# Altium footprint library SMD.PcbLib: 86 footprints (part 3 of 6)
Each footprint in its own frame and in the unit in brackets; x right, y up, seen from the top. Pads: shape width x height; smd on the part's side, far side on the other; paste and mask are expansions set on the pad; w line width, h text height; cw(c..) or ccw(c..) is an arc to the next point about the centre after c.
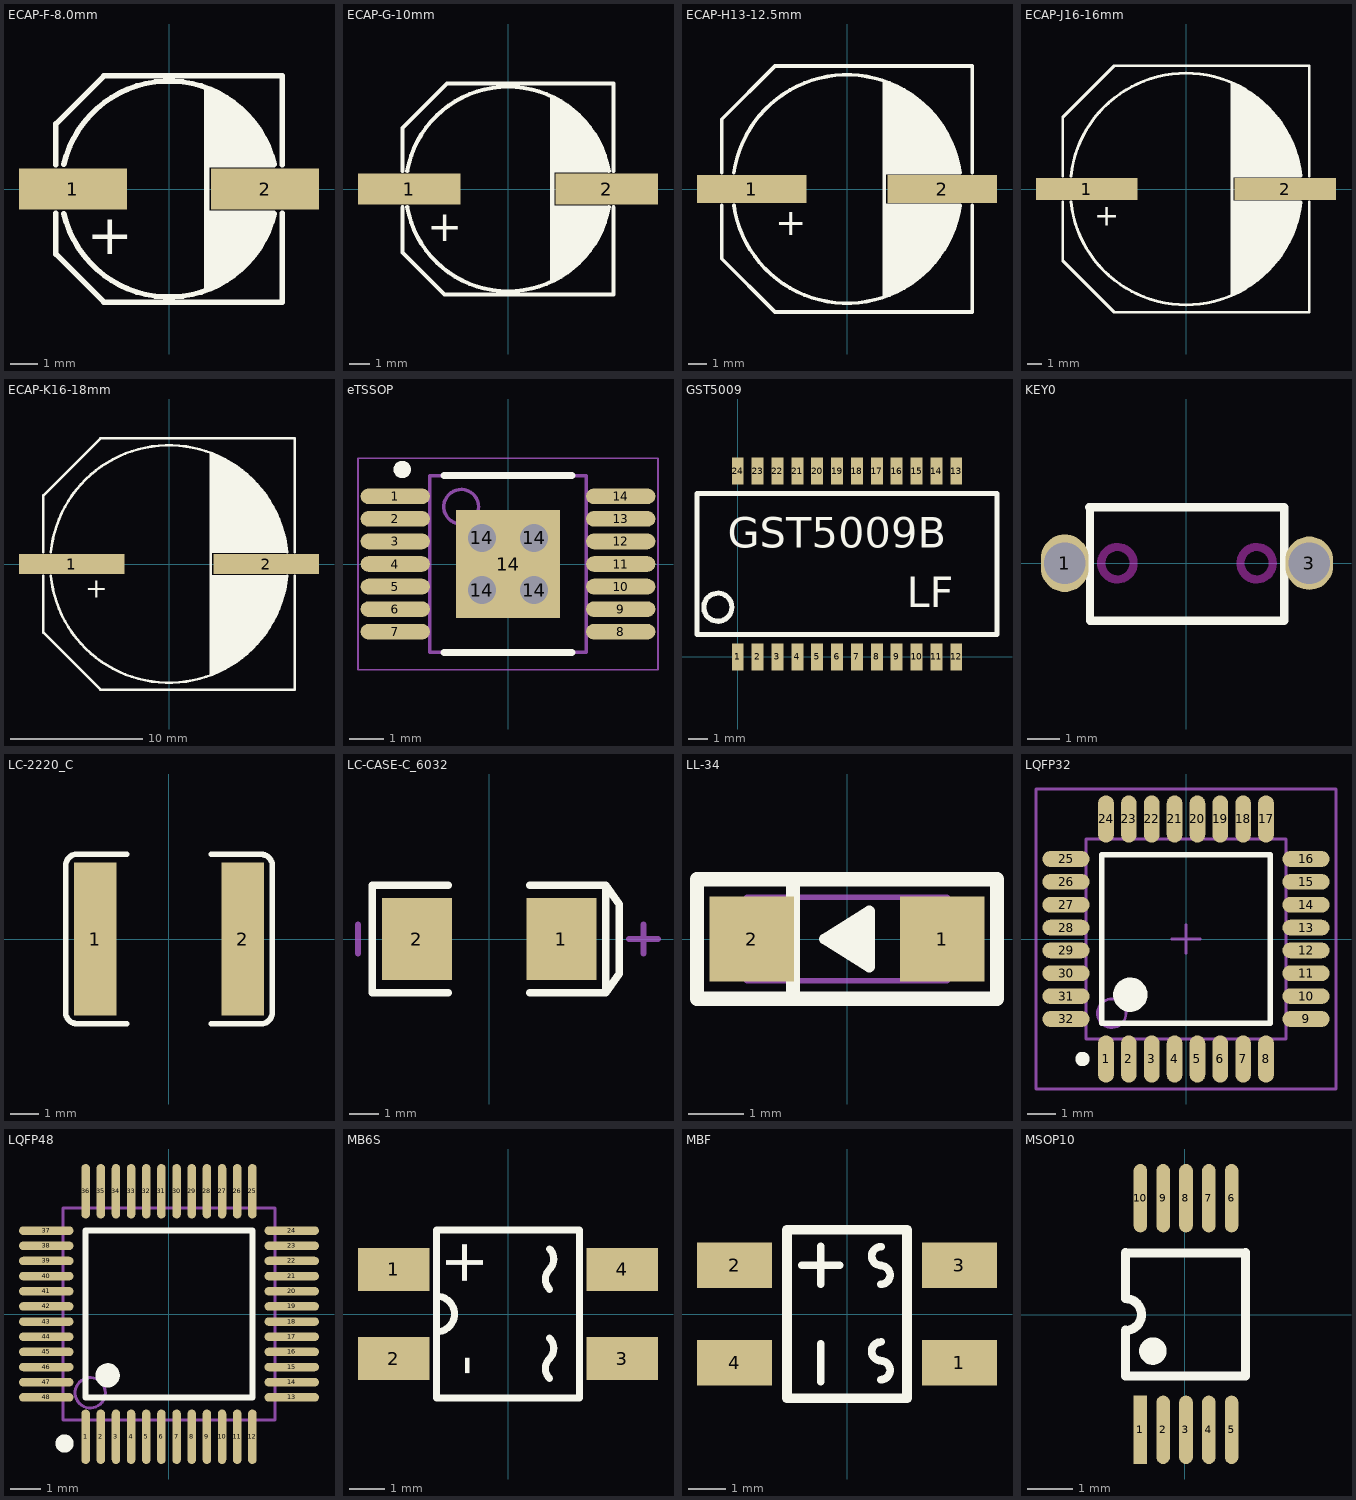
[diagram p2: the footprints below, top view; thin cyan lines are the x and y axes]

## ECAP-F-8.0mm [mil] "贴片铝电容-F"
height 401.57
pads (2):
  rect 157.48x60 smd: 1(-140,0) 2(140,0)
Top Overlay:
  region: 55,-32 154,-32 143,-67 115,-107 80,-136 65,-144 55,-147
  region: 55,32 154,32 143,67 115,107 80,136 65,144 55,148
  lines w7.87: -165,-35 -165,-95 -95,-165 165,-165 165,-35 ; -165,35 -165,95 -95,165 165,165 165,35 ; -153.36,-35.78 ccw(c0,0) 153.36,-35.78 ; -153.36,35.78 cw(c0,0) 153.36,35.78 ; 55,-145 55,145
  text "+" at -120,-95 h59.06
3D body "User Library-capacitor size F.step": height 401.77, standoff -0.2, extent -194.88,-163.38 194.89,163.39

## ECAP-G-10mm [mil] "贴片铝电容-G"
height 401.57
pads (2):
  rect 196.85x60 smd: 1(-190,0) 2(190,0)
Top Overlay:
  region: 84.5,-32 193.5,-32 187.5,-61 169.5,-99 148.5,-129 116.5,-159 90.5,-175 84.5,-176
  region: 85,32 194,32 188,61 170,99 149,129 117,159 91,175 85,176
  lines w7.87: -202.99,-35 -202.99,-122.01 -122.01,-202.99 202.99,-202.99 202.99,-35 ; -202.99,35 -202.99,117.01 -117,203 202.99,203 202.99,35 ; -193.75,-34.78 ccw(c0,0) 193.75,-34.78 ; -193.75,34.78 cw(c0,0) 193.75,34.78 ; 85,-175 85,175
  text "+" at -155,-100 h59.06
3D body "User Library-capacitor size G.step": height 401.77, standoff -0.2, extent -228.34,-202.75 228.35,202.76

## ECAP-H13-12.5mm [mil] "贴片铝电容-H13"
height 543.31
pads (2):
  rect 236.22x60 smd: 1(-205,0) 2(205,0)
Top Overlay:
  region: 80,-32 243,-32 243,-40 234,-78 219,-112 193,-153 162,-186 116,-218 90,-230 80,-231
  region: 80.5,32 243.5,32 243.5,40 234.5,78 219.5,112 193.5,153 162.5,186 116.5,218 90.5,230 80.5,231
  lines w7.87: -270,-35 -270,-150 -155,-265 270,-265 270,-35 ; -270,35 -270,150 -155,265 270,265 270,35 ; -243.59,34.8 cw(c0,0) 243.59,34.8 ; -243.49,-35.51 ccw(c0,0) 243.49,-35.51 ; 80,-230 80,230
  text "+" at -155,-100 h59.06
3D body "User Library-capacitor size H13.step": height 531.69, standoff -0.2, extent -271.65,-265.75 271.66,265.75

## ECAP-J16-16mm [mil] "贴片铝电容-J16"
height 661.42
pads (2):
  rect 275.59x60 smd: 1(-270,0) 2(270,0)
Top Overlay:
  region: 125,32 313,32 310,53 296,108 278,150 249,192 219,225 181,257 154,274 125,287
  region: 125,-32 313,-32 310,-53 296,-108 278,-150 249,-192 219,-225 181,-257 154,-274 125,-287
  lines w7.87: -335,-35 -335,-195 -195,-335 335,-335 335,-35 ; -335,35 -335,195 -195,335 335,335 335,35 ; -313.03,-34.78 ccw(c0,0) 312.97,-35.34 ; -313.03,34.78 cw(c0,0) 312.97,35.34 ; 125,-285 125,285
  text "+" at -250,-100 h59.06
3D body "User Library-capacitor size J16.step": height 649.8, standoff -0.2, extent -348.42,-334.65 348.43,334.64

## ECAP-K16-18mm [mil] "贴片铝电容-K16"
height 661.42
pads (2):
  rect 314.96x60 smd: 1(-290,0) 2(290,0)
Top Overlay:
  region: 125,33 353,33 351,51 342,95 318,157 294,199 259,241 233,267 201,292 172,310 147,322 125,331
  region: 125,-33 353,-33 351,-51 342,-95 318,-157 294,-199 259,-241 233,-267 201,-292 172,-310 147,-322 125,-331
  lines w7.87: -375,-35 -375,-205 -205,-375 375,-375 375,-35 ; -375,35 -375,205 -205,375 375,375 375,35 ; -352.57,-35.26 ccw(c0,0) 352.57,-35.26 ; -352.57,35.26 cw(c0,0) 352.57,35.26 ; 125,-330 125,330
  text "+" at -250,-100 h59.06
3D body "User Library-capacitor size K16.step": height 649.8, standoff -0.2, extent -395.66,-374.02 395.68,374.02

## eTSSOP [mm] "LM3150"
height 1.1
pads (19):
  oval 2x0.45 smd: 1(-3.25,1.95) 2(-3.25,1.3) 3(-3.25,0.65) 4(-3.25,0) 5(-3.25,-0.65) 6(-3.25,-1.3) 7(-3.25,-1.95) 8(3.25,-1.95) 9(3.25,-1.3) 10(3.25,-0.65) 11(3.25,0) 12(3.25,0.65) 13(3.25,1.3) 14(3.25,1.95)
  round 1 hole 0.8: 14(-0.75,-0.75) 14(-0.75,0.75) 14(0.75,-0.75) 14(0.75,0.75)
  rect 3x3.1 smd: 14(0,0)
Top Overlay:
  circle w0.25: c-3.05,2.725 r0.125
  lines w0.2: -1.85,-2.55 1.85,-2.55 ; -1.85,2.55 1.85,2.55
Mechanical 13:
  circle w0.1: c-1.35,1.65 r0.5
  lines w0.1: -2.25,-2.55 -2.25,2.55 2.25,2.55 2.25,-2.55 -2.25,-2.55
Mechanical 15:
  lines w0.05: -4.325,-3.05 -4.325,3.05 4.325,3.05 4.325,-3.05 -4.325,-3.05
  lines w0.1: -0.5,0 0.5,0 ; 0,-0.5 0,0.5
3D body: height 1.1, standoff 0.08, extent -2.25,-2.55 2.25,2.55

## GST5009 [mm]
pads (24):
  rect 0.6x1.35 smd: 1(0,0) 2(1,0) 3(2,0) 4(3,0) 5(4,0) 6(5,0) 7(6,0) 8(7,0) 9(8,0) 10(9,0) 11(10,0) 12(11,0) 13(11,9.35) 14(10,9.35) 15(9,9.35) 16(8,9.35) 17(7,9.35) 18(6,9.35) 19(5,9.35) 20(4,9.35) 21(3,9.35) 22(2,9.35) 23(1,9.35) 24(0,9.35)
Top Overlay:
  circle w0.254: c-1,2.5 r0.707
  lines w0.254: -2.05,1.125 13.05,1.125 13.05,8.225 -2.05,8.225 -2.05,1.125
  text "LF" at 8.5,2.5 h1.52
  text "GST5009B" at -0.5,5.5 h1.52

## KEY0 [mil]
pads (2):
  oval 58x70 hole 50: 1(-147.64,0)
  oval 58x65 hole 50: 3(149.61,0)
Top Overlay:
  lines w10: -118.11,67.91 118.11,67.91 ; -117.13,67.91 -117.13,-69.88 119.09,-69.88 119.09,67.91
Keep-Out Layer:
  circle w10: c85.63,0 r19.68
  circle w10: c-83.66,0 r19.68

## LC-2220_C [mm]
height 1.1
pads (2):
  rect 1.5x5.42 smd: 1(-2.62,0) 2(2.62,0)
Top Overlay:
  lines w0.2: -1.5,-3.01 -3.27,-3.01 cw(c-3.27,-2.61) -3.67,-2.61 -3.67,2.61 cw(c-3.27,2.61) -3.27,3.01 -1.5,3.01 ; 1.5,-3.01 3.27,-3.01 ccw(c3.27,-2.61) 3.67,-2.61 3.67,2.61 ccw(c3.27,2.61) 3.27,3.01 1.5,3.01
3D body "User Library-CAPC5750X23.STEP": height 2.3, standoff 0, extent -2.85,-2.5 2.85,2.5

## LC-CASE-C_6032 [mm]
height 1.1
pads (2):
  rect 2.4x2.8 smd: 1(2.48,0) 2(-2.48,0)
Top Overlay:
  lines w0.254: -1.4,-1.85 -4.007,-1.85 -4.007,1.85 -1.4,1.85 ; 1.4,-1.85 4.007,-1.85 ; 1.4,1.85 4.007,1.85 ; 4.007,-1.85 4.47,-1.2 4.47,1.2 4.007,1.85 ; 4.007,-1.85 4.007,1.85
Mechanical 15:
  lines w0.203: -4.5,-0.5 -4.5,0.5 ; 4.8,0 5.8,0 ; 5.3,-0.5 5.3,0.5
3D body "User Library-AVX_C_CASE.STEP": height 2.7, standoff 0, extent -3.05,-1.675 3.05,1.675

## LL-34 [mil]
pads (2):
  rect 60x60 smd: 1(67.5,0) 2(-67.5,0)
Top Overlay:
  lines w7.87: 15.75,-14.18 -15.75,0 ; 15.75,-7.46 -15.75,0 ; 15.75,0 -15.75,0 ; 15.75,6.91 -15.75,0 ; 15.75,12.09 -15.75,0 ; -15.75,0 15.75,-19.68 15.75,19.68 -15.75,0
  lines w10: -38.39,-42.32 -38.39,42.32 ; -106.3,-42.32 106.3,-42.32 106.3,42.32 -106.3,42.32 -106.3,-42.32
Mechanical 13:
  lines w3.94: -70.87,-29.53 70.87,-29.53 70.87,29.53 -70.87,29.53 -70.87,-29.53
3D body "User Library-Diode MELF(Բ?": height 59.06, standoff 0, extent -70.9,-29.53 66.9,29.53

## LQFP32 [mm] "Thin QFP, 32-Leads, Body 7x7mm, Pitch 0.8mm, IPC Medium Density"
height 1.2
pads (32):
  oval 0.55x1.65 smd: 1(-2.8,-4.2) 2(-2,-4.2) 3(-1.2,-4.2) 4(-0.4,-4.2) 5(0.4,-4.2) 6(1.2,-4.2) 7(2,-4.2) 8(2.8,-4.2) 17(2.8,4.2) 18(2,4.2) 19(1.2,4.2) 20(0.4,4.2) 21(-0.4,4.2) 22(-1.2,4.2) 23(-2,4.2) 24(-2.8,4.2)
  oval 1.65x0.55 smd: 9(4.2,-2.8) 10(4.2,-2) 11(4.2,-1.2) 12(4.2,-0.4) 13(4.2,0.4) 14(4.2,1.2) 15(4.2,2) 16(4.2,2.8) 25(-4.2,2.8) 26(-4.2,2) 27(-4.2,1.2) 28(-4.2,0.4) 29(-4.2,-0.4) 30(-4.2,-1.2) 31(-4.2,-2) 32(-4.2,-2.8)
Top Overlay:
  circle w0.25: c-3.625,-4.2 r0.125
  circle w0.6: c-1.95,-1.95 r0.3
  lines w0.2: -2.95,-2.95 2.95,-2.95 2.95,2.95 -2.95,2.95 -2.95,-2.95
Mechanical 13:
  circle w0.1: c-2.6,-2.6 r0.5
  lines w0.1: -3.5,-3.5 3.5,-3.5 3.5,3.5 -3.5,3.5 -3.5,-3.5
Mechanical 15:
  lines w0.1: -0.5,0 0.5,0 ; 0,-0.5 0,0.5 ; -5.25,-5.25 5.25,-5.25 5.25,5.25 -5.25,5.25 -5.25,-5.25
3D body "User Library-LQFP-32.STEP": height 1.63, standoff -0.09, extent -4.479,-4.5 4.521,4.5

## LQFP48 [mm]
pads (48):
  oval 0.28x1.8 smd mask+0.051: 1(-2.75,-4.05) 2(-2.25,-4.05) 3(-1.75,-4.05) 4(-1.25,-4.05) 5(-0.75,-4.05) 6(-0.25,-4.05) 7(0.25,-4.05) 8(0.75,-4.05) 9(1.25,-4.05) 10(1.75,-4.05) 11(2.25,-4.05) 12(2.75,-4.05) 25(2.75,4.05) 26(2.25,4.05) 27(1.75,4.05) 28(1.25,4.05) 29(0.75,4.05) 30(0.25,4.05) 31(-0.25,4.05) 32(-0.75,4.05) 33(-1.25,4.05) 34(-1.75,4.05) 35(-2.25,4.05) 36(-2.75,4.05)
  oval 1.8x0.28 smd mask+0.051: 13(4.05,-2.75) 14(4.05,-2.25) 15(4.05,-1.75) 16(4.05,-1.25) 17(4.05,-0.75) 18(4.05,-0.25) 19(4.05,0.25) 20(4.05,0.75) 21(4.05,1.25) 22(4.05,1.75) 23(4.05,2.25) 24(4.05,2.75) 37(-4.05,2.75) 38(-4.05,2.25) 39(-4.05,1.75) 40(-4.05,1.25) 41(-4.05,0.75) 42(-4.05,0.25) 43(-4.05,-0.25) 44(-4.05,-0.75) 45(-4.05,-1.25) 46(-4.05,-1.75) 47(-4.05,-2.25) 48(-4.05,-2.75)
Top Overlay:
  circle w0.4: c-2.025,-2.025 r0.2
  circle w0.3: c-3.45,-4.275 r0.15
  lines w0.2: -2.75,-2.75 -2.75,2.75 2.75,2.75 2.75,-2.75 -2.75,-2.75
Mechanical 13:
  circle w0.1: c-2.6,-2.6 r0.5
  lines w0.1: -3.5,-3.5 -3.5,3.5 3.5,3.5 3.5,-3.5 -3.5,-3.5
3D body: height 0.5, standoff 0.13, extent -2.75,-2.75 2.75,2.75

## MB6S [mm]
pads (4):
  rect 2x1.2 smd: 1(-3.2,1.25) 2(-3.2,-1.25) 3(3.2,-1.25) 4(3.2,1.25)
Top Overlay:
  lines w0.2: -2,-0.5 ccw(c-2,0) -2,0.5 ; 1.164,-1.81 cw(c1.447,-1.527) 1.164,-1.244 ccw(c0.881,-0.961) 1.164,-0.679 ; 1.164,0.69 cw(c1.447,0.973) 1.164,1.256 ccw(c0.881,1.539) 1.164,1.821 ; -2,-2.35 2,-2.35 2,2.35 -2,2.35 -2,-2.35
  text "+" at -0.7,0.75 h1.2
  text "-" at -0.7,-1.75 h1.2
3D body "MBF.STEP": height 1.5, standoff -0.03, extent -3.4,-2.497 3.5,2.497

## MBF [mm]
pads (4):
  rect 2x1.2 smd: 1(3,-1.3) 2(-3,1.3) 3(3,1.3) 4(-3,-1.3)
Top Overlay:
  lines w0.203: -1.2,1.3 -0.2,1.3 ; -0.7,-1.8 -0.7,-0.8 ; -0.7,0.8 -0.7,1.8 ; 0.9,-1.75 ccw(c0.9,-1.5) 0.9,-1.25 ; 0.9,0.79 ccw(c0.9,1.04) 0.9,1.29 ; 0.908,-1.245 cw(c0.908,-0.995) 0.908,-0.745 ; 0.908,1.295 cw(c0.908,1.545) 0.908,1.795
  lines w0.254: -1.6,-2.25 -1.6,2.25 1.6,2.25 1.6,-2.25 -1.6,-2.25
3D body "MBF.STEP": height 1.5, standoff -0.03, extent -3.4,-2.497 3.5,2.497

## MSOP10 [mm]
pads (10):
  rect 0.3x1.5 smd: 1(-0.975,-2.525)
  oval 0.3x1.5 smd: 2(-0.475,-2.525) 3(0.025,-2.525) 4(0.525,-2.525) 5(1.025,-2.525) 6(1.025,2.55) 7(0.525,2.55) 8(0.025,2.55) 9(-0.475,2.55) 10(-0.975,2.55)
Top Overlay:
  circle w0.4: c-0.7,-0.8 r0.1
  lines w0.2: -1.3,-0.35 ccw(c-1.3,0) -1.3,0.35 -1.3,1.355 ; -1.3,-0.345 -1.3,-1.35 1.3,-1.35 ; -1.3,1.35 1.3,1.35 ; 1.325,-1.35 1.325,1.36